# Altium schematic symbol library VSS-IC-SchLib.SchLib: 3 symbols
Pins are listed as number, name and electrical type; pins without a type are passive.

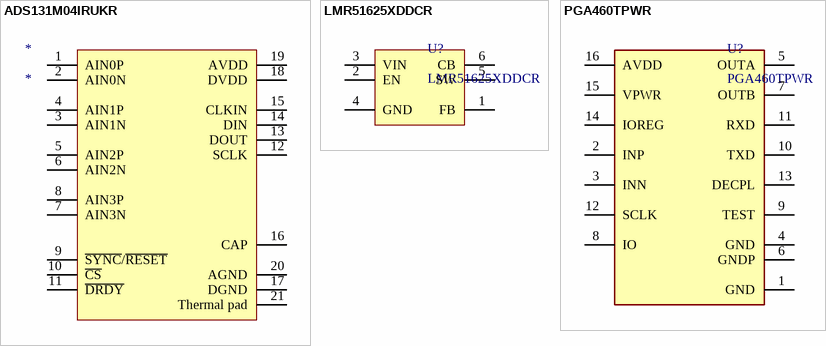
[diagram p0: symbols ADS131M04IRUKR to PGA460TPWR]

## ADS131M04IRUKR
designator *
24-bit, 32-kSPS, 4-channel, simultaneous-sampling, delta-sigma ADC 20-WQFN -40 to 125; Manufacturer: Texas Instruments; Manufacturer Part Number: ADS131M04IRUKR; Supplier: Mouser; Supplier Part Number: 595-ADS131M04IRUKR; RoHS: No; Category: Analog to Digital Converters (ADCs); Stock: 5054; Pricing: 1=5,29, 10=4,04, 50=3,73, 100=3,38, 1000=3,04, 10000=2,92 (USD)
pins: 1 AIN0P "Positive analog input 0", 2 AIN0N "Negative analog input 0", 3 AIN1N "Negative analog input 1", 4 AIN1P "Positive analog input 1", 5 AIN2P "Positive analog input 2", 6 AIN2N "Negative analog input 2", 7 AIN3N "Negative analog input 3", 8 AIN3P "Positive analog input 3", 9 ~{SYNC}/~{RESET} "Conversion synchronization or system reset; active low", 10 ~{CS} "Chip select; active low", 11 ~{DRDY} "Data ready; active low", 12 SCLK "Serial data clock", 13 DOUT "Serial data output", 14 DIN "Serial data input", 15 CLKIN "Master clock input", 16 CAP "Digital low-dropout (LDO) regulator output. Connect a 220-nF capacitor to DGND.", 17 DGND "Digital ground", 18 DVDD "Digital I/O supply. Connect a 1-µF capacitor to DGND", 19 AVDD "Analog supply. Connect a 1-µF capacitor to AGND.", 20 AGND "Analog ground", 21 Thermal pad "Thermal pad; connect to AGND"

## LMR51625XDDCR
designator U?
SIMPLE SWITCHER® synchronous buck converter with 4.3V-to-60V, 2.5A and low quiescent current 6-SOT-23-THIN -40 to 150; Manufacturer: Texas Instruments; Supplier: Mouser; Supplier Part Number: 595-LMR51625XDDCR; Manufacturer Part Number: LMR51625XDDCR; RoHS: No; Pricing: 1=2,82, 10=1,83, 50=1,66, 100=1,4, 1000=1,01, 10000=0,845 (USD); Pins: 6; Length: 2.9mm; Width: 1.6mm; Height: 1.1mm; Thickness: 870um
footprint TI SOT-23-6 DDC (SOT23, 6-Leads, Body 2.90x2.80mm, Pitch 0.95mm, IPC Medium Density)
pins: 1 FB, 2 EN, 3 VIN, 4 GND, 5 SW, 6 CB

## PGA460TPWR
designator U?
Ultrasonic signal processor and transducer driver 16-TSSOP -40 to 105; Manufacturer: Texas Instruments; Supplier: Mouser; Supplier Part Number: 595-PGA460TPWR; Manufacturer Part Number: PGA460TPWR; RoHS: Yes; Category: Analog to Digital Converters (ADCs); Stock: 2883; Pricing: 1=4,66, 10=3,51, 50=3,26, 100=2,9, 1000=2,32, 10000=2,21 (USD); ComponentLink1URL: http://www.ti.com/lit/ds/symlink/pga460.pdf?src-supplier=Digikey; ComponentLink1Description: http://www.ti.com/lit/ds/symlink/pga460.pdf?src-supplier=Digikey
footprint TI TSSOP-16 PW0016A (TSSOP, 16-Leads, Body 5.00x4.40mm, Pitch 0.65mm, IPC Medium Density)
pins: 1 GND, 2 INP, 3 INN, 4 GND, 5 OUTA, 6 GNDP, 7 OUTB, 8 IO, 9 TEST, 10 TXD, 11 RXD, 12 SCLK, 13 DECPL, 14 IOREG, 15 VPWR, 16 AVDD